# Altium footprint library 1_SLOT_PCB.PcbLib: 7 footprints
Each footprint in its own frame and in the unit in brackets; x right, y up, seen from the top. Pads: shape width x height; smd on the part's side, far side on the other; paste and mask are expansions set on the pad; w line width, h text height; cw(c..) or ccw(c..) is an arc to the next point about the centre after c.
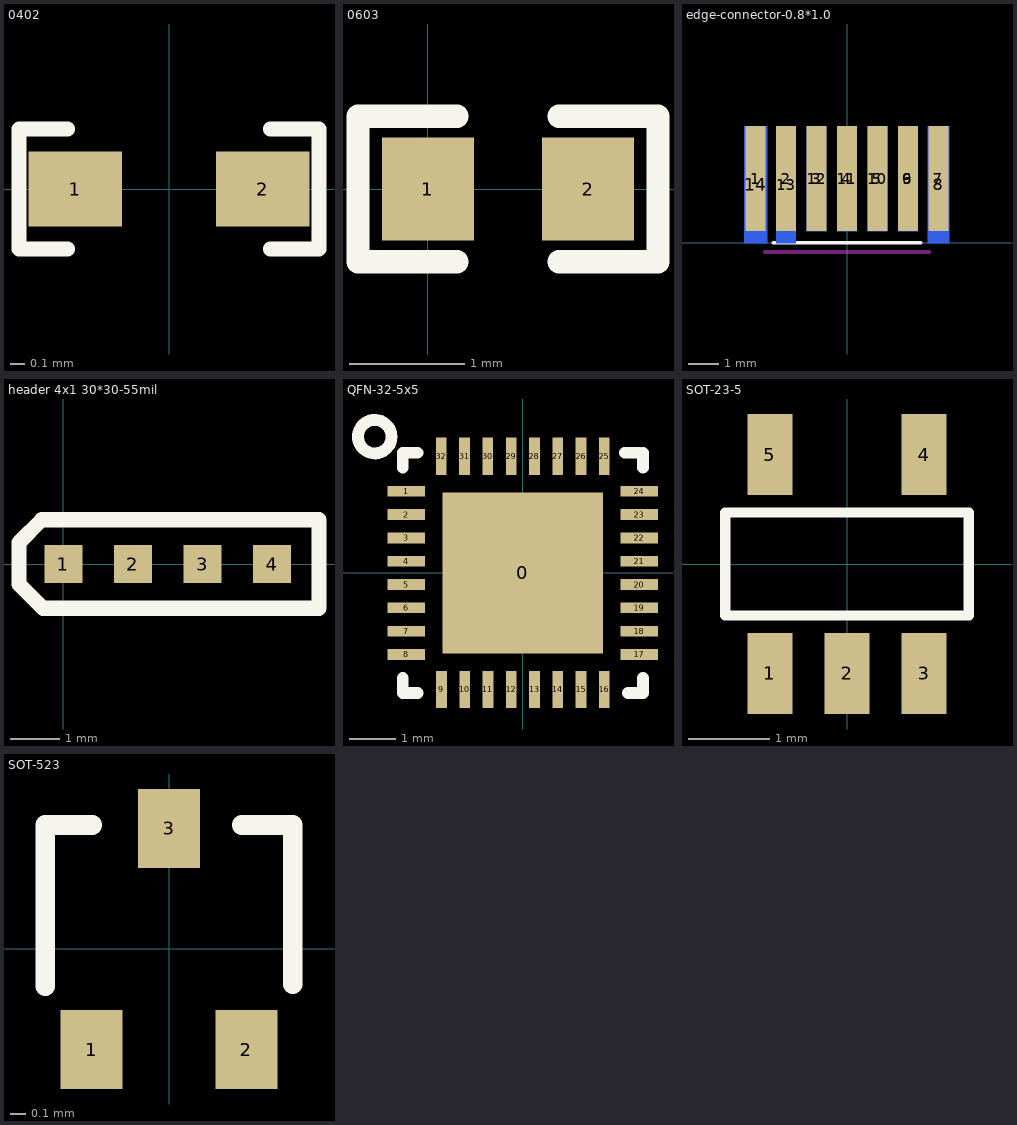
[diagram p0: the footprints below, top view; thin cyan lines are the x and y axes]

## 0402 [mil]
pads (2):
  rect 25x20 smd: 1(-25,0) 2(25,0)
Top Overlay:
  lines w3.94: -27,-16 -40,-16 -40,16 -27,16 ; 27,-16 40,-16 40,16 27,16
3D body: height 19.68, standoff 3.94, extent -40,-16 40,16

## 0603 [mm]
pads (2):
  rect 0.8x0.9 smd: 1(0,0) 2(1.397,0)
Top Overlay:
  lines w0.203: 0.254,-0.635 -0.61,-0.635 -0.61,0.635 0.254,0.635 ; 1.143,-0.635 2.007,-0.635 2.007,0.635 1.143,0.635
3D body: height 1, standoff 0, extent -0.686,-0.711 2.057,0.711

## edge-connector-0.8*1.0 [mm]
pads (14):
  rect 0.65x3.45 smd mask+0.07: 1(-3,2.102) 2(-2,2.102) 3(-1,2.102) 4(0,2.102) 5(1,2.102) 6(2,2.102) 7(3,2.102)
  rect 0.7x3.85 smd far side mask+0.07: 8(3,1.903)
  rect 0.65x3.45 smd far side mask+0.07: 9(2,2.102) 10(1,2.102) 11(0,2.102) 12(-1,2.102)
  rect 0.65x3.85 smd far side mask+0.07: 13(-2,1.903)
  rect 0.75x3.85 smd far side mask+0.07: 14(-3,1.903)
Top Overlay:
  lines w0.127: -2.413,0 2.413,0
Keep-Out Layer:
  lines w0.127: -2.7,-0.3 2.701,-0.3

## header 4x1 30*30-55mil [mil]
pads (4):
  rect 30x30 smd: 1(0,0) 2(55,0) 3(110,0) 4(165,0)
Top Overlay:
  lines w12: -35,-16 -35,17 -17,35 56,35 202,35 202,-35 56,-35 -16,-35 -35,-16

## QFN-32-5x5 [mm]
pads (33):
  rect 3.45x3.45 smd: 0(0,0)
  rect 0.8x0.23 smd: 1(-2.5,1.75) 2(-2.5,1.25) 3(-2.5,0.75) 4(-2.5,0.25) 5(-2.5,-0.25) 6(-2.5,-0.75) 7(-2.5,-1.25) 8(-2.5,-1.75) 17(2.5,-1.75) 18(2.5,-1.25) 19(2.5,-0.75) 20(2.5,-0.25) 21(2.5,0.25) 22(2.5,0.75) 23(2.5,1.25) 24(2.5,1.75)
  rect 0.23x0.8 smd: 9(-1.745,-2.5) 10(-1.246,-2.5) 11(-0.746,-2.5) 12(-0.247,-2.5) 13(0.252,-2.5) 14(0.751,-2.5) 15(1.251,-2.5) 16(1.75,-2.5) 25(1.75,2.5) 26(1.25,2.5) 27(0.75,2.5) 28(0.25,2.5) 29(-0.25,2.5) 30(-0.75,2.5) 31(-1.25,2.5) 32(-1.75,2.5)
Top Overlay:
  circle w0.254: c-3.175,2.921 r0.359
  lines w0.254: -2.575,-2.253 -2.575,-2.575 -2.253,-2.575 ; -2.575,2.253 -2.575,2.575 -2.258,2.575 ; 2.187,2.575 2.505,2.575 ; 2.253,-2.575 2.575,-2.575 2.575,-2.253 ; 2.575,2.253 2.575,2.575

## SOT-23-5 [mm]
pads (5):
  rect 0.55x1 smd: 1(-0.95,-1.35) 2(0,-1.35) 3(0.95,-1.35) 4(0.95,1.35) 5(-0.95,1.35)
Top Overlay:
  lines w0.127: -1.5,-0.635 1.5,-0.635 1.5,0.635 -1.5,0.635 -1.5,-0.635
3D body: height 1.5, standoff 0.1, extent -1.524,-1.905 1.524,1.905

## SOT-523 [mm]
pads (3):
  rect 0.4x0.51 smd: 1(-0.5,-0.65) 2(0.5,-0.65) 3(0,0.777)
Top Overlay:
  lines w0.127: -0.8,-0.241 -0.8,0.241 -0.8,0.8 -0.495,0.8 ; 0.47,0.8 0.8,0.8 0.8,0.254 0.8,-0.229
3D body: height 0.9, standoff 0.1, extent -0.864,-0.889 0.864,1.041